# Altium integrated library Linear Technology Power Management Switching Regulator LTC1174-LTC3901.IntLib: 2647 symbols (part 43 of 364)
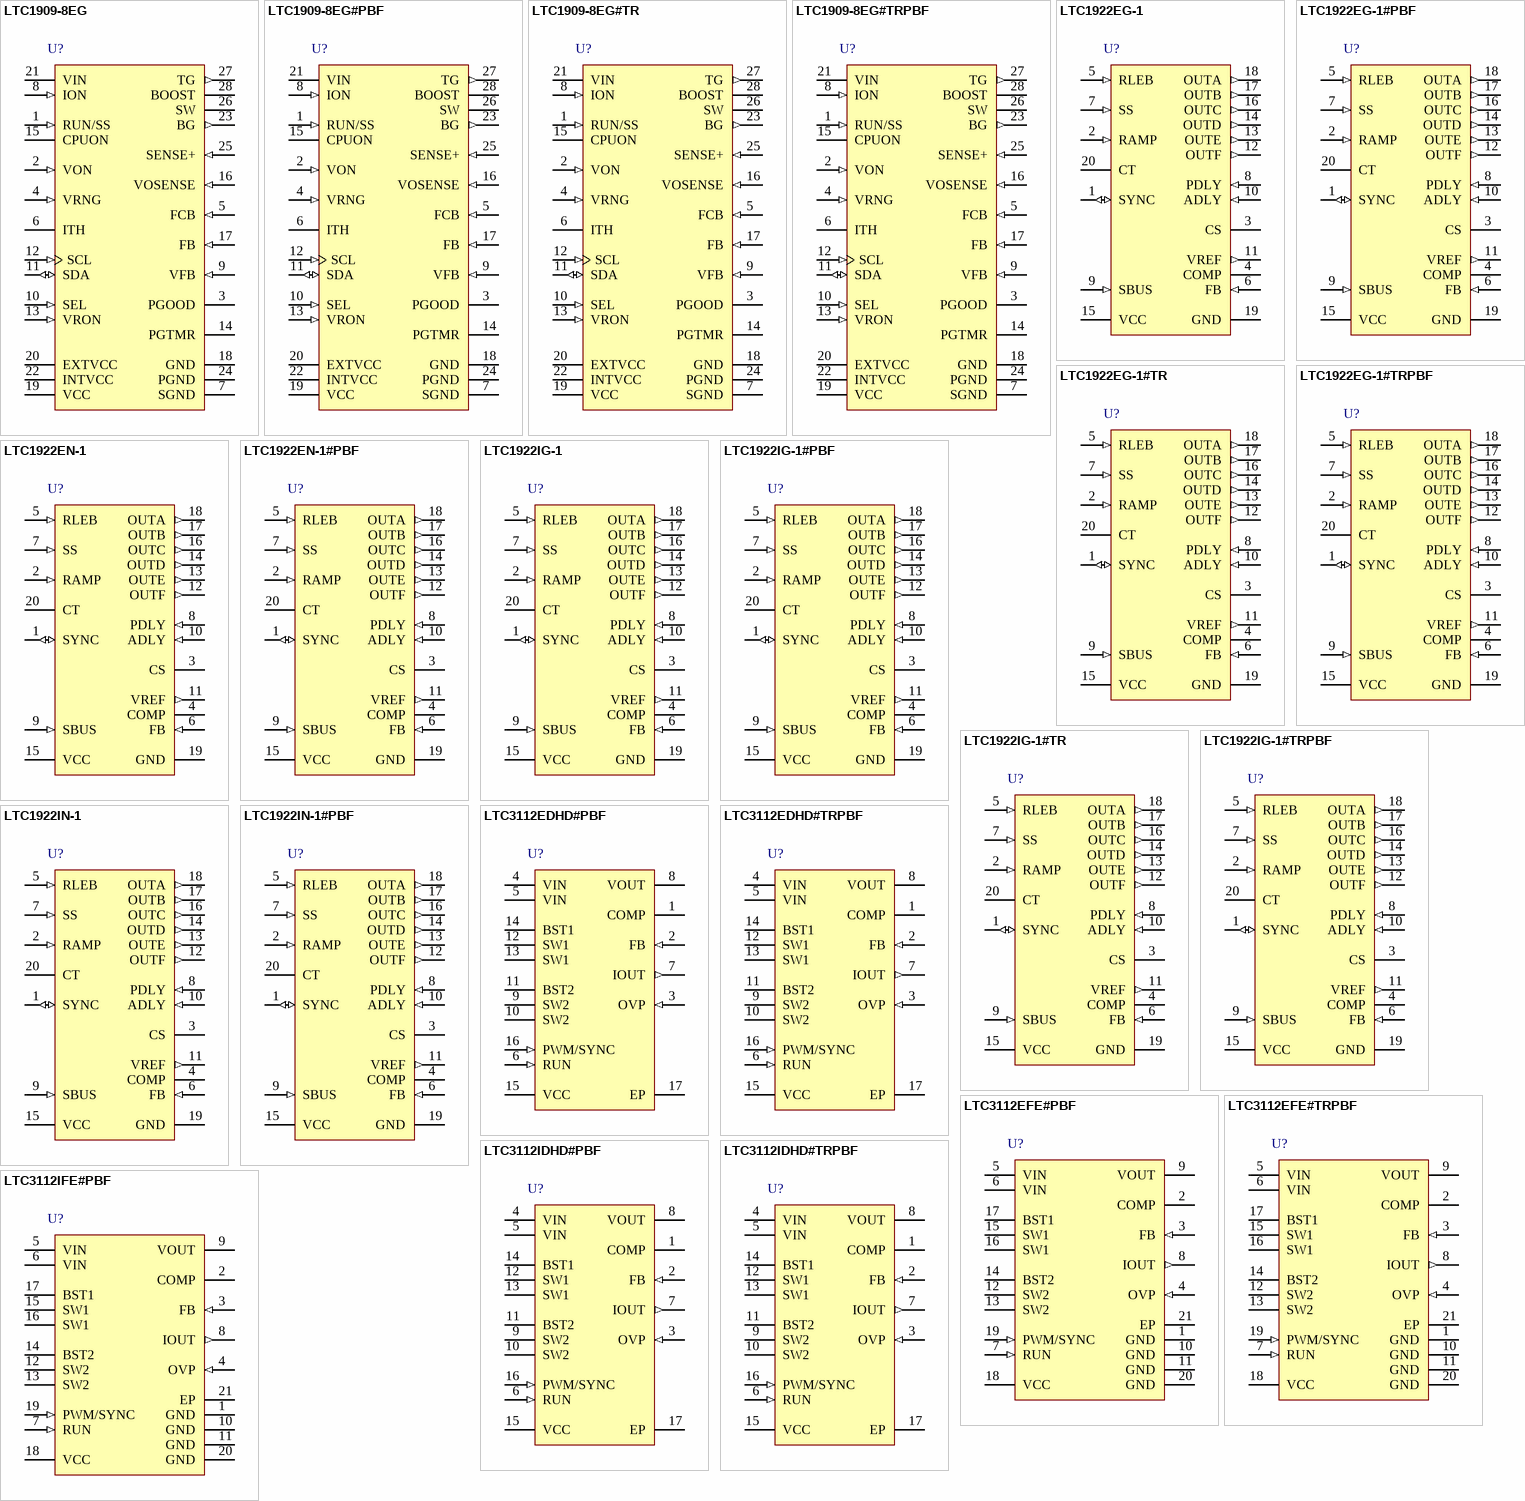
[diagram p237: symbols LTC1909-8EG to LTC3112IFE#PBF]

## LTC1922EG-1
designator U?
Synchronous Phase Modulated Full-Bridge Controller, Adaptive DirectSense Zero Voltage Switching, 20-pin SOP (G-20), -40 to 85 degC; Manufacturer: Linear Technology; PartNumber: LTC1922EG-1; Number of Outputs: 1; PackageVersion: Jun-10; PackageReference: G-20; PackageDescription: 20-Pin Plastic SSOP, Body 7.2 x 5.3 mm, Pitch 0.65 mm; Supplier 1: Digi-Key; Supplier Part Number 1: LTC1922EG-1-ND; RoHS: FALSE; Mounting Technology: Surface Mount; ComponentLink1Description: Manufacturer URL; ComponentLink1URL: http://www.linear.com/; ComponentLink2Description: Datasheet; ComponentLink2URL: http://cds.linear.com/docs/en/datasheet/1922f.pdf; ComponentLink3Description: Package Specification; ComponentLink3URL: http://cds.linear.com/docs/en/packaging/SSOP_20_05-08-1640.pdf
footprint LT-G-20_N (SOP, 20-Leads, Body 7.2x5.3mm, Pitch 0.65mm, IPC Medium Density)
footprint LT-G-20_L (SOP, 20-Leads, Body 7.2x5.3mm, Pitch 0.65mm, IPC High Density)
footprint LT-G-20_M (SOP, 20-Leads, Body 7.2x5.3mm, Pitch 0.65mm, IPC Low Density)
pins: 1 SYNC (io) "Synchronization Input/Output for the Oscillator. Terminate SYNC with a 5.1k resistor to GND.", 2 RAMP (in) "Input to Phase Modulator Comparator. The voltage on RAMP is internally level shifted by 400mV.", 3 CS "Input to Current Limit Comparators, Output of Slope Compensation Circuitry", 4 COMP "Error Amplifier Output, Input to Phase Modulator.", 5 RLEB (in) "Timing Resistor for Leading Edge Blanking. Use a 10k to 100k resistor to program from 40ns to 310ns of leading edge blanking. A +/-1% tolerance resistor is recommended. Leading edge blanking may be defeated by connecting (See Datasheet)", 6 FB (in) "Error Amplifier Inverting Input. This is the voltage feedback input for the LTC1922-1.", 7 SS (in) "Soft-Start/Restart Delay Circuitry Timing Capacitor.", 8 PDLY (in) "Passive Leg Delay Circuit Input.", 9 SBUS (in) "Input (Bus) Voltage Sensing Input", 10 ADLY (in) "Active Leg Delay Circuit Input", 11 VREF (out) "5V Reference Output. VREF is capable of supplying up to 15mA to external circuitry. Bypass VREF with a 1uF (minimum) ceramic capacitor to GND.", 12 OUTF (out) "50mA Driver Output for Secondary Side Current Doubler Synchronous Rectifier.", 13 OUTE (out) "50mA Driver Output for Secondary Side Current Doubler Synchronous Rectifier.", 14 OUTD (out) "50mA Driver Output for Active Leg Low Side.", 15 VCC (power) "Chip Power Supply Input, 10.3V Shunt Regulator. Bypass VCC with a 0.1uF or larger ceramic capacitor to GND.", 16 OUTC (out) "50mA Driver Output for Active Leg High Side.", 17 OUTB (out) "50mA Driver Output for Passive Leg Low Side.", 18 OUTA (out) "50mA Driver Output for Passive Leg High Side.", 19 GND (power) "All Voltages on the LTC1922-1 Are Referred to GND.", 20 CT "Timing Capacitor for Oscillator. Use +/-5% or better multilayer NPO ceramic for best results."

## LTC1922EG-1#PBF
designator U?
Synchronous Phase Modulated Full-Bridge Controller, Adaptive DirectSense Zero Voltage Switching, 20-pin SOP (G-20), -40 to 85 degC, Pb-Free; Manufacturer: Linear Technology; PartNumber: LTC1922EG-1#PBF; Number of Outputs: 1; PackageVersion: Jun-10; PackageReference: G-20; PackageDescription: 20-Pin Plastic SSOP, Body 7.2 x 5.3 mm, Pitch 0.65 mm; Supplier 1: Digi-Key; Supplier Part Number 1: LTC1922EG-1#PBF-ND; Supplier 2: Farnell; Supplier Part Number 2: 1273920; Supplier 3: Newark; Supplier Part Number 3: 56M4336; RoHS: TRUE; Mounting Technology: Surface Mount; ComponentLink1Description: Manufacturer URL; ComponentLink1URL: http://www.linear.com/; ComponentLink2Description: Datasheet; ComponentLink2URL: http://cds.linear.com/docs/en/datasheet/1922f.pdf; ComponentLink3Description: Package Specification; ComponentLink3URL: http://cds.linear.com/docs/en/packaging/SSOP_20_05-08-1640.pdf
footprint LT-G-20_N (SOP, 20-Leads, Body 7.2x5.3mm, Pitch 0.65mm, IPC Medium Density)
footprint LT-G-20_L (SOP, 20-Leads, Body 7.2x5.3mm, Pitch 0.65mm, IPC High Density)
footprint LT-G-20_M (SOP, 20-Leads, Body 7.2x5.3mm, Pitch 0.65mm, IPC Low Density)
pins: 1 SYNC (io) "Synchronization Input/Output for the Oscillator. Terminate SYNC with a 5.1k resistor to GND.", 2 RAMP (in) "Input to Phase Modulator Comparator. The voltage on RAMP is internally level shifted by 400mV.", 3 CS "Input to Current Limit Comparators, Output of Slope Compensation Circuitry", 4 COMP "Error Amplifier Output, Input to Phase Modulator.", 5 RLEB (in) "Timing Resistor for Leading Edge Blanking. Use a 10k to 100k resistor to program from 40ns to 310ns of leading edge blanking. A +/-1% tolerance resistor is recommended. Leading edge blanking may be defeated by connecting (See Datasheet)", 6 FB (in) "Error Amplifier Inverting Input. This is the voltage feedback input for the LTC1922-1.", 7 SS (in) "Soft-Start/Restart Delay Circuitry Timing Capacitor.", 8 PDLY (in) "Passive Leg Delay Circuit Input.", 9 SBUS (in) "Input (Bus) Voltage Sensing Input", 10 ADLY (in) "Active Leg Delay Circuit Input", 11 VREF (out) "5V Reference Output. VREF is capable of supplying up to 15mA to external circuitry. Bypass VREF with a 1uF (minimum) ceramic capacitor to GND.", 12 OUTF (out) "50mA Driver Output for Secondary Side Current Doubler Synchronous Rectifier.", 13 OUTE (out) "50mA Driver Output for Secondary Side Current Doubler Synchronous Rectifier.", 14 OUTD (out) "50mA Driver Output for Active Leg Low Side.", 15 VCC (power) "Chip Power Supply Input, 10.3V Shunt Regulator. Bypass VCC with a 0.1uF or larger ceramic capacitor to GND.", 16 OUTC (out) "50mA Driver Output for Active Leg High Side.", 17 OUTB (out) "50mA Driver Output for Passive Leg Low Side.", 18 OUTA (out) "50mA Driver Output for Passive Leg High Side.", 19 GND (power) "All Voltages on the LTC1922-1 Are Referred to GND.", 20 CT "Timing Capacitor for Oscillator. Use +/-5% or better multilayer NPO ceramic for best results."

## LTC1922EG-1#TR
designator U?
Synchronous Phase Modulated Full-Bridge Controller, Adaptive DirectSense Zero Voltage Switching, 20-pin SOP (G-20), -40 to 85 degC, Tape and Reel; Manufacturer: Linear Technology; PartNumber: LTC1922EG-1#TR; Number of Outputs: 1; PackageVersion: Jun-10; PackageReference: G-20; PackageDescription: 20-Pin Plastic SSOP, Body 7.2 x 5.3 mm, Pitch 0.65 mm; Supplier 1: Digi-Key; Supplier Part Number 1: LTC1922EG-1#TR-ND; Packing: Tape and Reel; RoHS: FALSE; Mounting Technology: Surface Mount; ComponentLink1Description: Manufacturer URL; ComponentLink1URL: http://www.linear.com/; ComponentLink2Description: Datasheet; ComponentLink2URL: http://cds.linear.com/docs/en/datasheet/1922f.pdf; ComponentLink3Description: Package Specification; ComponentLink3URL: http://cds.linear.com/docs/en/packaging/SSOP_20_05-08-1640.pdf
footprint LT-G-20_N (SOP, 20-Leads, Body 7.2x5.3mm, Pitch 0.65mm, IPC Medium Density)
footprint LT-G-20_L (SOP, 20-Leads, Body 7.2x5.3mm, Pitch 0.65mm, IPC High Density)
footprint LT-G-20_M (SOP, 20-Leads, Body 7.2x5.3mm, Pitch 0.65mm, IPC Low Density)
pins: 1 SYNC (io) "Synchronization Input/Output for the Oscillator. Terminate SYNC with a 5.1k resistor to GND.", 2 RAMP (in) "Input to Phase Modulator Comparator. The voltage on RAMP is internally level shifted by 400mV.", 3 CS "Input to Current Limit Comparators, Output of Slope Compensation Circuitry", 4 COMP "Error Amplifier Output, Input to Phase Modulator.", 5 RLEB (in) "Timing Resistor for Leading Edge Blanking. Use a 10k to 100k resistor to program from 40ns to 310ns of leading edge blanking. A +/-1% tolerance resistor is recommended. Leading edge blanking may be defeated by connecting (See Datasheet)", 6 FB (in) "Error Amplifier Inverting Input. This is the voltage feedback input for the LTC1922-1.", 7 SS (in) "Soft-Start/Restart Delay Circuitry Timing Capacitor.", 8 PDLY (in) "Passive Leg Delay Circuit Input.", 9 SBUS (in) "Input (Bus) Voltage Sensing Input", 10 ADLY (in) "Active Leg Delay Circuit Input", 11 VREF (out) "5V Reference Output. VREF is capable of supplying up to 15mA to external circuitry. Bypass VREF with a 1uF (minimum) ceramic capacitor to GND.", 12 OUTF (out) "50mA Driver Output for Secondary Side Current Doubler Synchronous Rectifier.", 13 OUTE (out) "50mA Driver Output for Secondary Side Current Doubler Synchronous Rectifier.", 14 OUTD (out) "50mA Driver Output for Active Leg Low Side.", 15 VCC (power) "Chip Power Supply Input, 10.3V Shunt Regulator. Bypass VCC with a 0.1uF or larger ceramic capacitor to GND.", 16 OUTC (out) "50mA Driver Output for Active Leg High Side.", 17 OUTB (out) "50mA Driver Output for Passive Leg Low Side.", 18 OUTA (out) "50mA Driver Output for Passive Leg High Side.", 19 GND (power) "All Voltages on the LTC1922-1 Are Referred to GND.", 20 CT "Timing Capacitor for Oscillator. Use +/-5% or better multilayer NPO ceramic for best results."